# EAGLE library part KK156-07 (library con-molex-kk)
HEADER
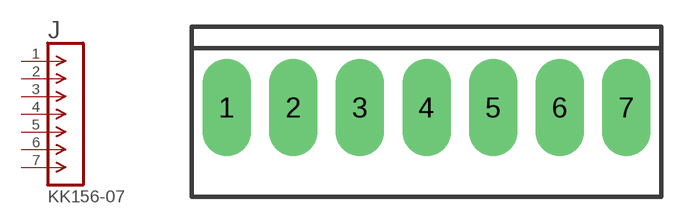
[diagram p162: symbol with the pads of KK156-07; footprint KK156-07]

Designator prefix J

## KK156-07  [KK156-07]
1  1  pas
2  2  pas
3  3  pas
4  4  pas
5  5  pas
6  6  pas
7  7  pas

## Footprint KK156-07 (pad centres in mm)
HEADER - 0.156" SPOX 5273 Series
drill 1.93 long: 1 -11.887,0; 2 -7.925,0; 3 -3.962,0; 4 0,0; 5 3.962,0; 6 7.925,0; 7 11.887,0